# Altium footprint library CAN_IC.PcbLib: 5 footprints
Each footprint in its own frame and in the unit in brackets; x right, y up, seen from the top. Pads: shape width x height; smd on the part's side, far side on the other; paste and mask are expansions set on the pad; w line width, h text height; cw(c..) or ccw(c..) is an arc to the next point about the centre after c.
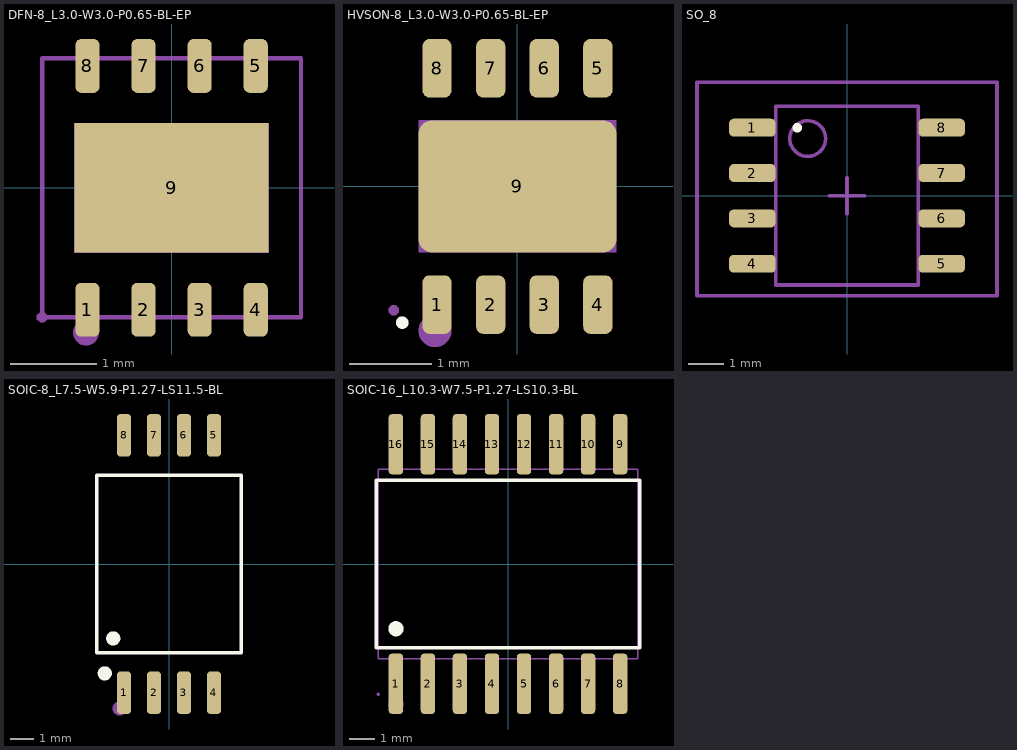
[diagram p0: the footprints below, top view; thin cyan lines are the x and y axes]

## DFN-8_L3.0-W3.0-P0.65-BL-EP [mm]
pads (9):
  rrect50% 0.28x0.625 smd mask+0.051: 1(-0.975,-1.412) 2(-0.325,-1.412) 3(0.325,-1.412) 4(0.975,-1.412) 5(0.975,1.412) 6(0.325,1.412) 7(-0.325,1.412) 8(-0.975,1.412)
  rect 2.25x1.5 smd mask+0.051: 9(0,0)
Mechanical 6:
  circle w0.15: c-0.991,-1.676 r0.075
Mechanical 15:
  region: -1.125,-0.75 -1.125,0.75 1.125,0.75 1.125,-0.75
  region: -1.092,1.499 -1.092,1.124 -0.867,1.124 -0.867,1.499
  region: -0.436,1.499 -0.436,1.124 -0.211,1.124 -0.211,1.499
  region: 0.212,1.499 0.212,1.124 0.437,1.124 0.437,1.499
  region: 0.862,1.499 0.862,1.124 1.088,1.124 1.088,1.499
  region: 0.863,-1.5 0.863,-1.125 1.088,-1.125 1.088,-1.5
  region: 0.212,-1.5 0.212,-1.125 0.437,-1.125 0.437,-1.5
  region: -0.436,-1.5 -0.436,-1.125 -0.211,-1.125 -0.211,-1.5
  region: -1.092,-1.5 -1.092,-1.125 -0.867,-1.125 -0.867,-1.5
  region: -1.44,-1.5 -1.44,-1.475 -1.475,-1.44 -1.525,-1.44 -1.56,-1.475 -1.56,-1.5 -1.56,-1.525 -1.525,-1.56 -1.475,-1.56 -1.44,-1.525 -1.44,-1.5
  lines w0.051: -1.5,-1.5 1.5,-1.5 1.5,1.5 -1.5,1.5 -1.5,-1.5
3D body "DFN-8 3x3.step": height 1, standoff 0, extent -1.5,-1.525 1.5,1.525

## HVSON-8_L3.0-W3.0-P0.65-BL-EP [mil]
pads (9):
  rrect50% 14x28 smd: 1(-38.39,-56.4) 2(-12.79,-56.4) 3(12.8,-56.4) 4(38.39,-56.4) 5(38.39,56.4) 6(12.8,56.4) 7(-12.79,56.4) 8(-38.39,56.4)
  rrect20% 94.49x62.99 smd: 9(0,0)
Top Overlay:
  circle w4: c-55,-65 r1
Mechanical 6:
  circle w7.87: c-39.37,-68.9 r3.94
Mechanical 15:
  region: -56.69,-59.05 -56.69,-58.08 -58.08,-56.69 -60.03,-56.69 -61.42,-58.08 -61.42,-59.05 -61.42,-60.03 -60.03,-61.42 -58.08,-61.42 -56.69,-60.03 -56.69,-59.05
  region: -47.24,31.5 47.24,31.5 47.24,-31.5 -47.24,-31.5
  region: -44.3,43.31 -44.3,59.05 -32.48,59.05 -32.48,43.31
  region: -18.7,43.31 -18.7,59.05 -6.88,59.05 -6.88,43.31
  region: 6.89,43.31 6.89,59.05 18.71,59.05 18.71,43.31
  region: 32.48,43.31 32.48,59.05 44.3,59.05 44.3,43.31
  region: 32.48,-59.05 32.48,-43.31 44.3,-43.31 44.3,-59.05
  region: 6.89,-59.05 6.89,-43.31 18.71,-43.31 18.71,-59.05
  region: -18.7,-59.05 -18.7,-43.31 -6.88,-43.31 -6.88,-59.05
  region: -44.3,-59.05 -44.3,-43.31 -32.48,-43.31 -32.48,-59.05
3D body "User Library-HVSON-8.STEP": height 39.37, standoff 0, extent -58.61,-59 58.72,59.11

## SO_8 [mm] "SOP_8"
pads (8):
  rrect50% 1.3x0.5 smd: 1(-2.65,1.905) 2(-2.65,0.635) 3(-2.65,-0.635) 4(-2.65,-1.905) 5(2.65,-1.905) 6(2.65,-0.635) 7(2.65,0.635) 8(2.65,1.905)
Top Overlay:
  circle w0.25: c-1.397,1.905 r0.011
Mechanical 13:
  circle w0.1: c-1.1,1.6 r0.5
  lines w0.1: -2,-2.5 2,-2.5 2,2.5 -2,2.5 -2,-2.5
Mechanical 15:
  lines w0.1: -0.5,0 0.5,0 ; 0,-0.5 0,0.5 ; -4.2,-2.8 4.2,-2.8 4.2,3.175 -4.2,3.175 -4.2,-2.8
3D body "SW3DPS-SO-8-DEFAULT.STEP": height 1.45, standoff 0, extent -2.889,-2.439 2.889,2.464

## SOIC-8_L7.5-W5.9-P1.27-LS11.5-BL [mm]
pads (8):
  rrect50% 0.6x1.8 smd mask+0.051: 1(-1.905,-5.45) 2(-0.635,-5.45) 3(0.635,-5.45) 4(1.905,-5.45) 5(1.905,5.45) 6(0.635,5.45) 7(-0.635,5.45) 8(-1.905,5.45)
Top Overlay:
  circle w0.3: c-2.72,-4.63 r0.15
  circle w0.3: c-2.36,-3.15 r0.15
  lines w0.152: -3.065,-3.75 3.065,-3.75 3.065,3.75 -3.065,3.75 -3.065,-3.75
Mechanical 6:
  circle w0.3: c-2.09,-6.11 r0.15

## SOIC-16_L10.3-W7.5-P1.27-LS10.3-BL [mm]
pads (16):
  rrect50% 0.574x2.401 smd: 1(-4.445,-4.75) 2(-3.175,-4.75) 3(-1.905,-4.75) 4(-0.635,-4.75) 5(0.635,-4.75) 6(1.905,-4.75) 7(3.175,-4.75) 8(4.445,-4.75) 9(4.445,4.75) 10(3.175,4.75) 11(1.905,4.75) 12(0.635,4.75) 13(-0.635,4.75) 14(-1.905,4.75) 15(-3.175,4.75) 16(-4.445,4.75)
Top Overlay:
  circle w0.3: c-4.445,-2.569 r0.15
  lines w0.152: -5.226,-3.321 -5.226,3.321 5.226,3.321 5.226,-3.321 -5.226,-3.321
Mechanical 6:
  circle w0.3: c-4.445,-5.563 r0.15
Mechanical 15:
  drawing of 37 lines, arcs and shapes, not listed